# Altium schematic symbol library User.SchLib: 9 symbols
Pins are listed as number, name and electrical type; pins without a type are passive.

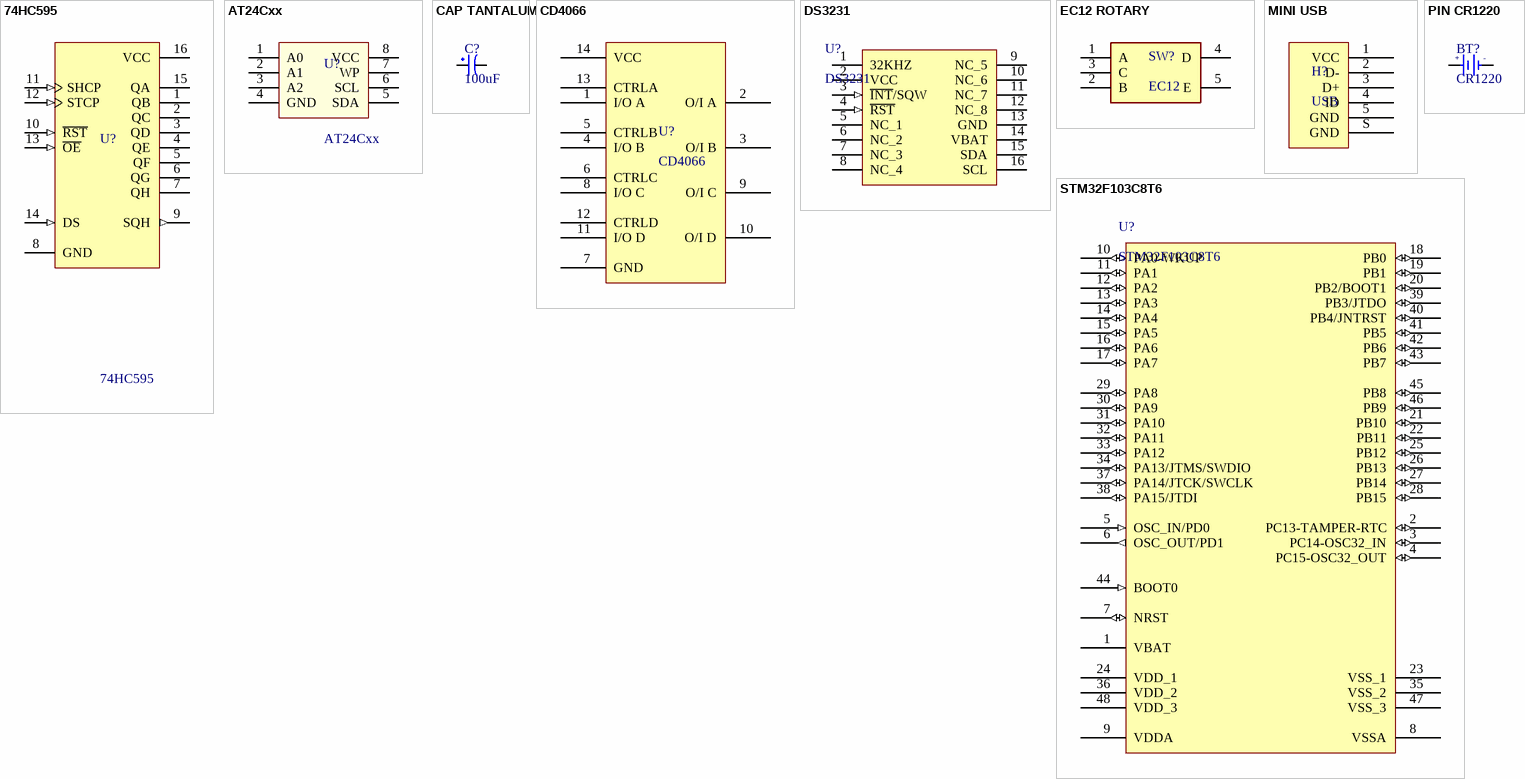
[diagram p0: symbols 74HC595 to STM32F103C8T6]

## 74HC595
designator U?
footprint SO16 (SOP, 16-Leads, Body 9.90x3.90mm, Pitch 1.27mm, IPC Medium Density)
pins: 1 QB (hiz), 2 QC (hiz), 3 QD (hiz), 4 QE (hiz), 5 QF (hiz), 6 QG (hiz), 7 QH (hiz), 8 GND (power), 9 SQH (out), 10 ~{RST} (in), 11 SHCP (in), 12 STCP (in), 13 ~{OE} (in), 14 DS (in), 15 QA (hiz), 16 VCC (power)

## AT24Cxx
designator U?
footprint SO8 (SOIC, 8-Leads, Body 4.89x3.90mm, Pitch 1.27mm, IPC Medium Density)
pins: 1 A0, 2 A1, 3 A2, 4 GND (power), 5 SDA, 6 SCL, 7 WP, 8 VCC (power)

## CAP TANTALUM
designator C?, comment 100uF
footprint TU TANTALUM
pins: 1, 2

## CD4066
designator U?
footprint SO14 (SOIC, 14-Leads, Body 8.65x3.90mm, Pitch 1.27mm, IPC Medium Density)
pins: 1 I/O A, 2 O/I A, 3 O/I B, 4 I/O B, 5 CTRLB, 6 CTRLC, 7 GND, 8 I/O C, 9 O/I C, 10 O/I D, 11 I/O D, 12 CTRLD, 13 CTRLA, 14 VCC

## DS3231
designator U?
Manufacturer_Name: Maxim Integrated; Manufacturer_Part_Number: DS3231SN#; Datasheet Link: https://datasheets.maximintegrated.com/en/ds/DS3231.pdf; Height: 2.65mm; Mouser Part Number: 700-DS3231SN#; Mouser Price/Stock: https://www.mouser.com/Search/Refine.aspx?Keyword=700-DS3231SN%23; RS Part Number: 1897251; RS Price/Stock: http://uk.rs-online.com/web/p/products/1897251
footprint SOIC16 (SOIC, 16-Leads, Body 10.30x7.50mm, Pitch 1.27mm, IPC Medium Density)
pins: 1 32KHZ, 2 VCC (power), 3 ~{INT}/SQW (in), 4 ~{RST} (in), 5 NC_1, 6 NC_2, 7 NC_3, 8 NC_4, 9 NC_5, 10 NC_6, 11 NC_7, 12 NC_8, 13 GND (power), 14 VBAT, 15 SDA, 16 SCL

## EC12 ROTARY
designator SW?, comment EC12
footprint EC12 ROTARY
pins: 1 A, 2 B, 3 C, 4 D, 5 E

## MINI USB
designator H?, comment USB
footprint MINI USB
pins: 1 VCC, 2 D-, 3 D+, 4 ID, 5 GND, S GND

## PIN CR1220
designator BT?, comment CR1220
footprint PIN CR1220
pins: 1 +3V, 2 GND
text: +; -

## STM32F103C8T6
designator U?
footprint LQFP48 (LQFP, 48-Leads, Body 7.00x7.00mm, Pitch 0.50mm, IPC Medium Density)
pins: 1 VBAT (power), 2 PC13-TAMPER-RTC (io), 3 PC14-OSC32_IN (io), 4 PC15-OSC32_OUT (io), 5 OSC_IN/PD0 (in), 6 OSC_OUT/PD1 (out), 7 NRST (io), 8 VSSA (power), 9 VDDA (power), 10 PA0-WKUP (io), 11 PA1 (io), 12 PA2 (io), 13 PA3 (io), 14 PA4 (io), 15 PA5 (io), 16 PA6 (io), 17 PA7 (io), 18 PB0 (io), 19 PB1 (io), 20 PB2/BOOT1 (io), 21 PB10 (io), 22 PB11 (io), 23 VSS_1 (power), 24 VDD_1 (power), 25 PB12 (io), 26 PB13 (io), 27 PB14 (io), 28 PB15 (io), 29 PA8 (io), 30 PA9 (io), 31 PA10 (io), 32 PA11 (io), 33 PA12 (io), 34 PA13/JTMS/SWDIO (io), 35 VSS_2 (power), 36 VDD_2 (power), 37 PA14/JTCK/SWCLK (io), 38 PA15/JTDI (io), 39 PB3/JTDO (io), 40 PB4/JNTRST (io), 41 PB5 (io), 42 PB6 (io), 43 PB7 (io), 44 BOOT0 (in), 45 PB8 (io), 46 PB9 (io), 47 VSS_3 (power), 48 VDD_3 (power)